# EAGLE library part MIC94090 (library micrel)
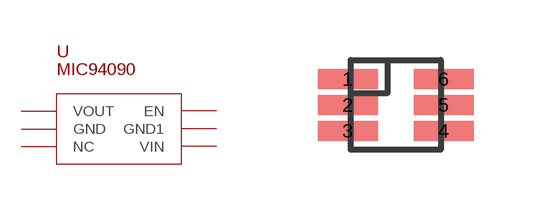
[diagram p2: symbol with the pads of MIC94090; footprint MIC94090]

Designator prefix U

## MIC94090  [MIC94090]
1  VOUT
2  GND
3  NC
4  VIN
5  GND1
6  EN

## Footprint MIC94090 (pad centres in mm)
smd 1.5 x 0.5: 1 -1.2,0.65; 2 -1.2,0; 3 -1.2,-0.65; 4 1.2,-0.65; 5 1.2,0; 6 1.2,0.65